# Altium schematic symbol library buck.SchLib: 7 symbols
Pins are listed as number, name and electrical type; pins without a type are passive.

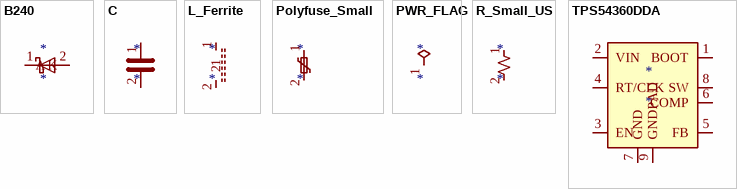
[diagram p0: symbols B240 to TPS54360DDA]

## B240
designator *
pins: 1 K, 2 A

## C
designator *
pins: 1, 2

## L_Ferrite
designator *
pins: 1, 2

## Polyfuse_Small
designator *
pins: 1, 2

## PWR_FLAG
designator *  (graphical)
pins: 1

## R_Small_US
designator *
pins: 1, 2

## TPS54360DDA
designator *
pins: 1 BOOT, 2 VIN, 3 EN, 4 RT/CLK, 5 FB, 6 COMP, 7 GND, 8 SW, 9 GNDPAD